# Altium schematic symbol library Keystone.SchLib: 3 symbols
Pins are listed as number, name and electrical type; pins without a type are passive.

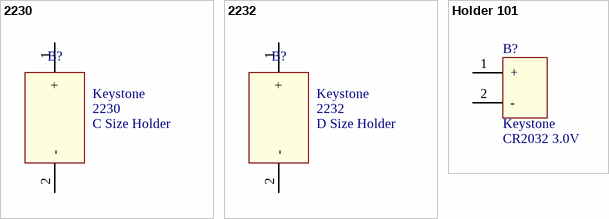
[diagram p0: symbols 2230 to Holder 101]

## 2230
designator B?  value C Size Holder  Manufacturer: Keystone  (hidden comment: 2230)
PartNumber: 2230
footprint KEYSTONE-2230 (BATTERY HOLDER C 1 CELL)
pins: 1 +, 2 -

## 2232
designator B?  value D Size Holder  Manufacturer: Keystone  (hidden comment: 2232)
PartNumber: 2232
footprint KEYSTONE-2232 (BATTERY HOLDER D 1 CELL)
pins: 1 +, 2 -

## Holder 101
designator B?, comment Manufacturer: Keystone  Batery: CR2032 3.0V  (hidden comment: 101)
HOLDER BATTERY COIN 20MM TH; PartNumber: 101; Supplier 1: Digi-Key; Supplier Part Number 1: 36-101-ND; Supplier 2: Mouser; Supplier Part Number 2: 534-101
footprint Holder-CR2032-103 (Battery Holder CR2032)
pins: 1 +, 2 -